# EAGLE library part ARDUINO_D1_MINI (library Arduino)
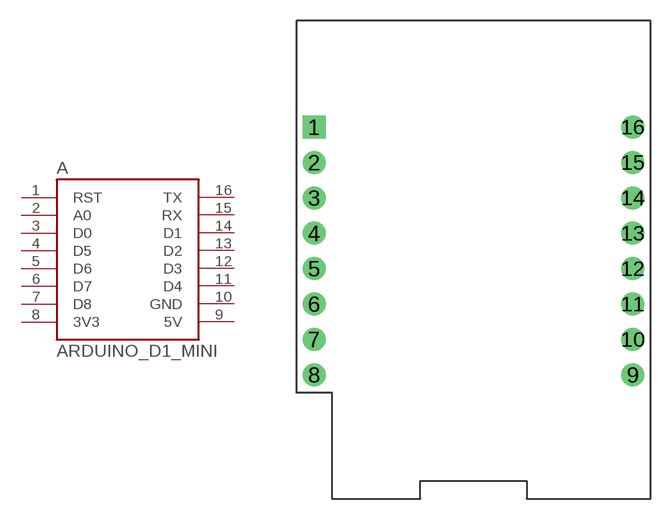
[diagram p0: symbol with the pads of ARDUINO_D1_MINI; footprint ARDUINO_D1_MINI]

Designator prefix A

## ARDUINO_D1_MINI  [ARDUINO_D1_MINI]
1  RST  pas
2  A0
3  D0
4  D5
5  D6
6  D7
7  D8
8  3V3  pas
9  5V
10  GND  pas
11  D4
12  D3
13  D2
14  D1
15  RX
16  TX

## Footprint ARDUINO_D1_MINI (pad centres in mm)
drill 1.1 square: 1 -11.43,8.89
drill 1.1: 2 -11.43,6.35; 3 -11.43,3.81; 4 -11.43,1.27; 5 -11.43,-1.27; 6 -11.43,-3.81; 7 -11.43,-6.35; 8 -11.43,-8.89; 9 11.43,-8.89; 10 11.43,-6.35; 11 11.43,-3.81; 12 11.43,-1.27; 13 11.43,1.27; 14 11.43,3.81; 15 11.43,6.35; 16 11.43,8.89